# Altium footprint library Footprint.PcbLib: 139 footprints (part 3 of 9)
Each footprint in its own frame and in the unit in brackets; x right, y up, seen from the top. Pads: shape width x height; smd on the part's side, far side on the other; paste and mask are expansions set on the pad; w line width, h text height; cw(c..) or ccw(c..) is an arc to the next point about the centre after c.
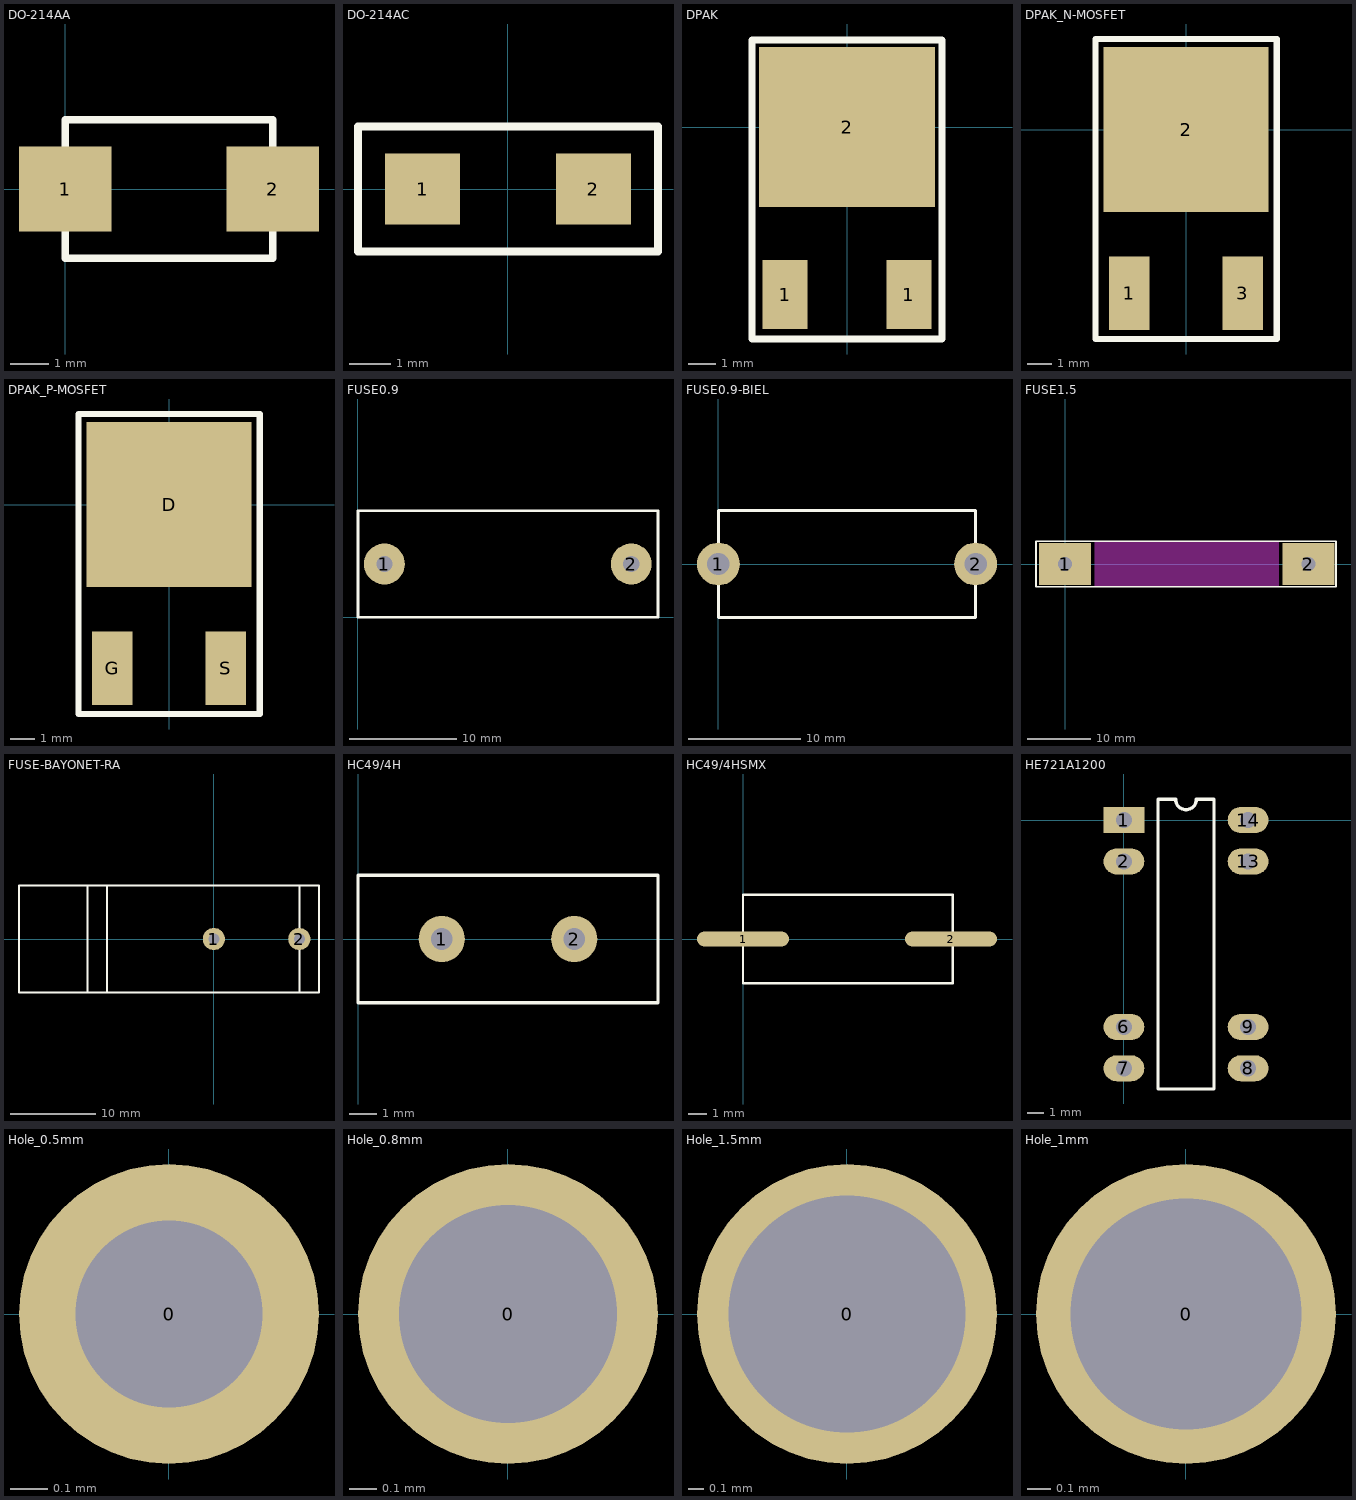
[diagram p2: the footprints below, top view; thin cyan lines are the x and y axes]

## DO-214AA [mm]
pads (2):
  rect 2.4x2.2 smd: 1(0,0) 2(5.4,0)
TopOverlay:
  lines w0.2: 0,-1.8 0,1.8 5.4,1.8 5.4,-1.8 0,-1.8

## DO-214AC [mm]
pads (2):
  rect 1.8x1.7 smd: 1(-2.05,0) 2(2.05,0)
TopOverlay:
  lines w0.2: -3.6,-1.5 3.6,-1.5 3.6,1.5 -3.6,1.5 -3.6,0 -3.6,-1.5

## DPAK [mm]
pads (3):
  rect 1.65x2.54 smd: 1(-2.28,-6.17) 1(2.28,-6.17)
  rect 6.48x5.9 smd: 2(0,0)
TopOverlay:
  lines w0.254: -3.5,-7.8 -3.5,3.2 3.5,3.2 3.5,-7.8 -3.5,-7.8

## DPAK_N-MOSFET [mm] "STD12NF06L"
height 2
pads (3):
  rect 1.65x3 smd: 1(-2.3,-6.65) 3(2.3,-6.65)
  rect 6.7x6.7 smd: 2(0,0)
TopOverlay:
  lines w0.254: -3.683,-8.509 3.683,-8.509 3.683,3.683 -3.683,3.683 -3.683,-8.509

## DPAK_P-MOSFET [mm] "FQD7P20"
height 2
pads (3):
  rect 6.7x6.7 smd: D(0,0)
  rect 1.65x3 smd: G(-2.3,-6.65) S(2.3,-6.65)
TopOverlay:
  lines w0.254: -3.683,-8.509 3.683,-8.509 3.683,3.683 -3.683,3.683 -3.683,-8.509

## FUSE0.9 [mil]
pads (2):
  round 150 hole 60: 1(97,195) 2(1002,195)
TopOverlay:
  lines w10: 0,0 0,390 1100,390 1100,0 0,0

## FUSE0.9-BIEL [mm]
pads (2):
  round 3.81 hole 2: 1(0,0) 2(22.86,0)
TopOverlay:
  lines w0.254: 0,-4.75 0,4.75 22.86,4.75 22.86,-4.75 0,-4.75

## FUSE1.5 [mil]
pads (2):
  rect 320x260 hole 87: 1(0,0) 2(1500,0)
TopOverlay:
  lines w10: -180,-140 -180,140 1500,140 1670,140 1670,0 1670,-140 1500,-140 -180,-140
KeepOutLayer:
  rectangle: 180,-140 1320,140

## FUSE-BAYONET-RA [mm]
pads (2):
  round 2.6 hole 1.3: 1(0,0) 2(10,0)
TopOverlay:
  lines w0.254: -14.8,-6.25 -14.8,6.25 ; -12.5,-6.25 -12.5,6.25 ; 10,-6.15 10,6.25 ; -22.8,-6.25 -22.8,6.25 12.3,6.25 12.3,-6.25 -22.8,-6.25

## HC49/4H [mm]
pads (2):
  round 1.7 hole 0.8: 1(3.085,0) 2(7.965,0)
TopOverlay:
  lines w0.127: 0,-2.35 10.3,-2.35 11.05,-2.35 11.05,2.35 10.35,2.35 0,2.35 0,-2.35

## HC49/4HSMX [mm]
pads (2):
  oval 5x0.8 smd: 1(0,0) 2(11.3,0)
TopOverlay:
  lines w0.127: 0,-2.4 0,2.4 10.3,2.4 11.4,2.4 11.4,-2.4 10.3,-2.4 0,-2.4

## HE721A1200 [mm] "12V SPST-NO Reed Relay"
height 7
pads (8):
  rect 2.5x1.6 hole 1: 1(0,0)
  oval 2.5x1.6 hole 1: 2(0,-2.54) 6(0,-12.7) 7(0,-15.24) 8(7.62,-15.24) 9(7.62,-12.7) 13(7.62,-2.54) 14(7.62,0)
TopOverlay:
  lines w0.2: 2.085,-16.51 2.085,1.27 3.175,1.27 ccw(c3.81,1.27) 4.445,1.27 5.535,1.27 5.535,-16.51 2.085,-16.51

## Hole_0.5mm [mm]
pads (1):
  round 0.8 hole 0.5: 0(0,0)

## Hole_0.8mm [mm]
pads (1):
  round 1.1 hole 0.8: 0(0,0)

## Hole_1.5mm [mm]
pads (1):
  round 1.9 hole 1.5: 0(0,0)

## Hole_1mm [mm]
pads (1):
  round 1.3 hole 1: 0(0,0)